# EAGLE library part DG406 (library graftel-internal-ic)
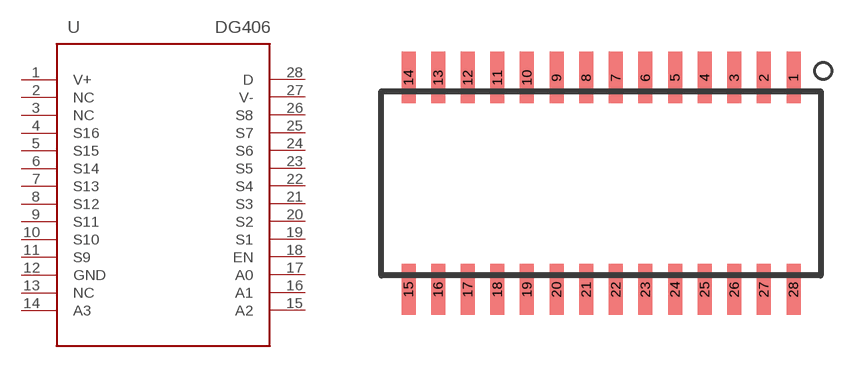
[diagram p32: symbol with the pads of SOIC-28; footprint SOIC-28]

Designator prefix U

## DG406  [SOIC-28]
1  V+
2  NC
3  NC
4  S16
5  S15
6  S14
7  S13
8  S12
9  S11
10  S10
11  S9
12  GND
13  NC
14  A3
15  A2
16  A1
17  A0
18  EN
19  S1
20  S2
21  S3
22  S4
23  S5
24  S6
25  S7
26  S8
27  V-
28  D

## Footprint SOIC-28 (pad centres in mm)
smd 0.6 x 2.2: 1 8.89,4.548; 2 7.62,4.548; 3 6.35,4.548; 4 5.08,4.548; 5 3.81,4.548; 6 2.54,4.548; 7 1.27,4.548; 8 0,4.548; 9 -1.27,4.548; 10 -2.54,4.548; 11 -3.81,4.548; 12 -5.08,4.548; 13 -6.35,4.548; 14 -7.62,4.548; 15 -7.62,-4.548; 16 -6.35,-4.548; 17 -5.08,-4.548; 18 -3.81,-4.548; 19 -2.54,-4.548; 20 -1.27,-4.548; 21 0,-4.548; 22 1.27,-4.548; 23 2.54,-4.548; 24 3.81,-4.548; 25 5.08,-4.548; 26 6.35,-4.548; 27 7.62,-4.548; 28 8.89,-4.548